# Altium footprint library PCB_Altium_Library_Manuel.PcbLib: 63 footprints (part 3 of 4)
Each footprint in its own frame and in the unit in brackets; x right, y up, seen from the top. Pads: shape width x height; smd on the part's side, far side on the other; paste and mask are expansions set on the pad; w line width, h text height; cw(c..) or ccw(c..) is an arc to the next point about the centre after c.
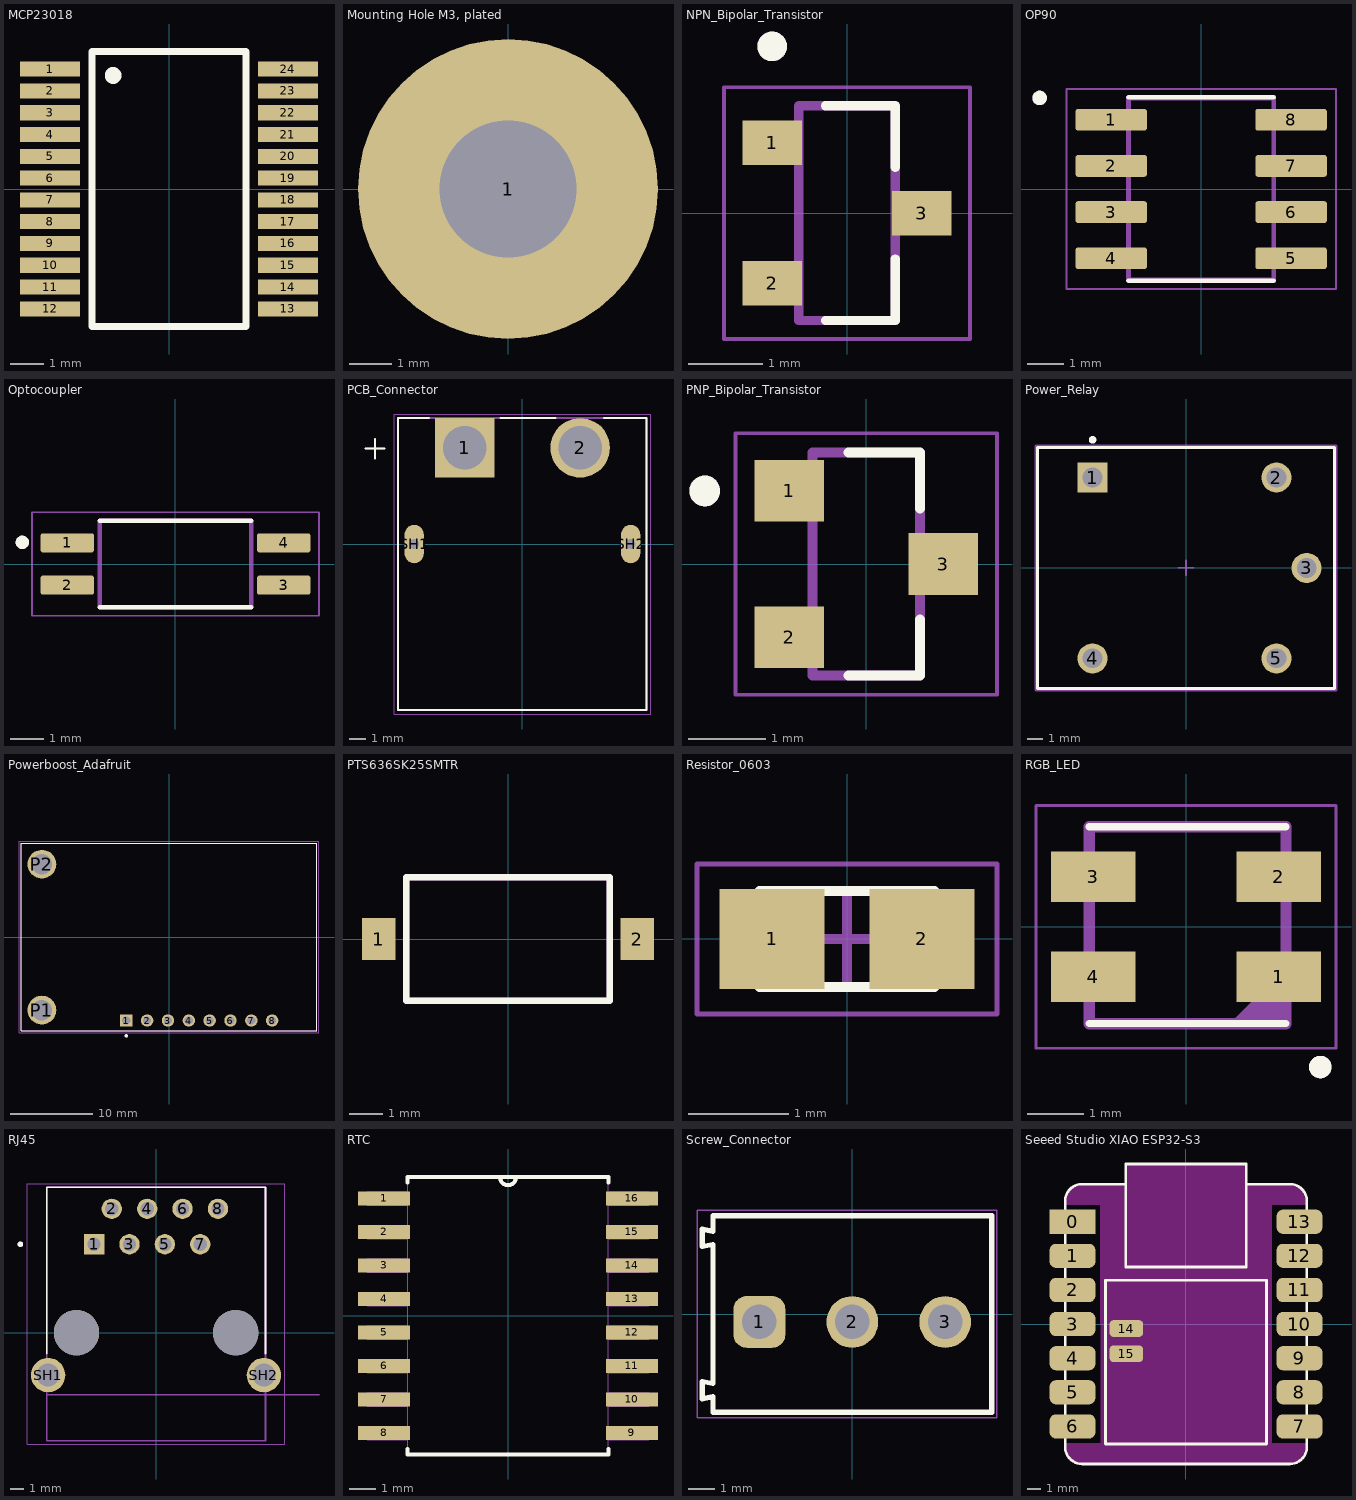
[diagram p2: the footprints below, top view; thin cyan lines are the x and y axes]

## MCP23018 [mm] "16-bit I/O Expander I2C,  SSOP-24"
pads (24):
  rect 1.8x0.45 smd: 1(-3.55,3.575) 2(-3.55,2.925) 3(-3.55,2.275) 4(-3.55,1.625) 5(-3.55,0.975) 6(-3.55,0.325) 7(-3.55,-0.325) 8(-3.55,-0.975) 9(-3.55,-1.625) 10(-3.55,-2.275) 11(-3.55,-2.925) 12(-3.55,-3.575) 13(3.55,-3.575) 14(3.55,-2.925) 15(3.55,-2.275) 16(3.55,-1.625) 17(3.55,-0.975) 18(3.55,-0.325) 19(3.55,0.325) 20(3.55,0.975) 21(3.55,1.625) 22(3.55,2.275) 23(3.55,2.925) 24(3.55,3.575)
Top Overlay:
  circle w0.3: c-1.666,3.387 r0.1
  lines w0.2: -2.3,-4.1 -2.3,4.1 2.3,4.1 2.3,-4.1 -2.3,-4.1
3D body "MCP23018-E_SS.stp": height 2, standoff 0, extent -3.9,-4.1 3.9,4.1

## Mounting Hole M3, plated [mm] "Mounting Hole for M3 Screw, plated to connect signal"
pads (1):
  round 7 / inner round 5 / far side round 7 hole 3.2: 1(0,0)
Top Overlay:
  circle w0.2: c0,0 r2.9
3D body: height 0, standoff 0, extent -2.254,1.203 -1.258,2.201

## NPN_Bipolar_Transistor [mm] "SS8050 SOT - 23."
pads (3):
  rect 0.8x0.6 smd: 1(-1.01,0.95) 2(-1.01,-0.95) 3(1.01,0)
Top Overlay:
  circle w0.2: c-1.01,2.25 r0.1
  lines w0.127: -0.29,-1.45 0.65,-1.45 0.65,-0.62 ; -0.29,1.45 0.65,1.45 0.65,0.62
Mechanical 13:
  circle w0.2: c-1.01,2.25 r0.1
  lines w0.127: -0.65,-1.45 -0.65,1.45 0.65,1.45 0.65,-1.45 -0.65,-1.45
Mechanical 15:
  lines w0.05: -1.66,-1.7 1.66,-1.7 1.66,1.7 -1.66,1.7 -1.66,-1.7
3D body "SS8050-G--3DModel-STEP-1.STEP": height 1.14, standoff 0, extent -1.2,-1.448 1.2,1.448

## OP90 [mm] "Operation amplifier OP90 SMD"
pads (8):
  rrect25% 1.97x0.6 smd: 1(-2.475,1.905) 2(-2.475,0.635) 3(-2.475,-0.635) 4(-2.475,-1.905) 5(2.475,-1.905) 6(2.475,-0.635) 7(2.475,0.635) 8(2.475,1.905)
Top Overlay:
  circle w0.2: c-4.445,2.505 r0.1
  lines w0.127: -2,-2.525 2,-2.525 ; -2,2.525 2,2.525
Mechanical 13:
  circle w0.2: c-4.445,2.505 r0.1
  lines w0.127: -2,-2.5 -2,2.5 2,2.5 2,-2.5 -2,-2.5
Mechanical 15:
  lines w0.05: -3.71,-2.75 -3.71,2.75 3.71,2.75 3.71,-2.75 -3.71,-2.75
3D body "step_temp.STEP": height 1.75, standoff 0, extent -3,-2.45 3,2.45

## Optocoupler [mm] "TLP291(GB-TP,SE), Optoisolator Transistor Output 3750Vrms 1 Channel 4-SO."
pads (4):
  rrect25% 1.61x0.57 smd: 1(-3.25,0.635) 2(-3.25,-0.635) 3(3.25,-0.635) 4(3.25,0.635)
Top Overlay:
  circle w0.2: c-4.6,0.65 r0.1
  lines w0.127: -2.275,-1.3 2.275,-1.3 ; -2.275,1.3 2.275,1.3
Mechanical 13:
  circle w0.2: c-4.6,0.65 r0.1
  lines w0.127: -2.275,-1.3 -2.275,1.3 2.275,1.3 2.275,-1.3 -2.275,-1.3
Mechanical 15:
  lines w0.05: -4.31,-1.55 -4.31,1.55 4.31,1.55 4.31,-1.55 -4.31,-1.55
3D body "step_temp.STEP": height 2.3, standoff 0, extent -3.5,-1.3 3.5,1.3

## PCB_Connector [mm] "XT60PW-M, Socket, DC supply, male, PIN: 2."
height 8.4
pads (4):
  rect 3.716x3.716 / inner round 3.716 / far side rect 3.716x3.716 hole 2.7 mask+0.102: 1(-3.6,6)
  round 3.716 hole 2.7 mask+0.102: 2(3.6,6)
  oval 1.2x2.4 hole 0.6 square mask+0.102: SH1(-6.75,0) SH2(6.75,0)
Top Overlay:
  lines w0.127: -9.8,5.95 -8.6,5.95 ; -9.2,5.35 -9.2,6.55 ; -5.828,7.85 -7.75,7.85 -7.75,-10.35 7.75,-10.35 7.75,7.85 5.078,7.85 ; -1.372,7.85 2.072,7.85
Mechanical 13:
  lines w0.127: -9.8,5.95 -8.6,5.95 ; -9.2,5.35 -9.2,6.55 ; -7.75,-10.35 -7.75,7.85 7.75,7.85 7.75,-10.35 -7.75,-10.35
Mechanical 15:
  lines w0.05: -8,-10.6 -8,8.11 8,8.11 8,-10.6 -8,-10.6
3D body "step_temp.STEP": height 8.4, standoff -2.55, extent -7.75,-10.35 7.75,7.85

## PNP_Bipolar_Transistor [mm] "S8550, Bipolar (BJT) Transistor PNP 25 V 500 mA 150MHz 300 mW Surface Mount SOT-23."
pads (3):
  rect 0.9x0.8 smd: 1(-1,0.95) 2(-1,-0.95) 3(1,0)
Top Overlay:
  circle w0.2: c-2.1,0.95 r0.1
  lines w0.127: -0.23,-1.45 0.7,-1.45 0.7,-0.72 ; -0.23,1.45 0.7,1.45 0.7,0.72
Mechanical 13:
  circle w0.2: c-2.1,0.95 r0.1
  lines w0.127: -0.7,-1.45 0.7,-1.45 0.7,1.45 -0.7,1.45 -0.7,-1.45
Mechanical 15:
  lines w0.05: -1.7,-1.7 1.7,-1.7 1.7,1.7 -1.7,1.7 -1.7,-1.7
3D body "step_temp.STEP": height 1.4, standoff 0, extent -1.262,-1.45 1.262,1.45

## Power_Relay [mm] "ORWH-SH-105D1F,000, RELAY GEN PURPOSE SPDT 10A 5V."
pads (5):
  rect 2x2 hole 1.3 paste-2539.97 mask+0: 1(-6.2,6)
  round 2 hole 1.3 paste-2539.97 mask+0: 2(6,6) 3(8,0) 4(-6.2,-6) 5(6,-6)
Top Overlay:
  circle w0.25: c-6.2,8.5 r0.125
  lines w0.2: -9.85,-8 -9.85,8 9.85,8 9.85,-8 -9.85,-8
Top 3D Body:
  lines w0.2: -9.85,-8 -9.85,8 9.85,8 9.85,-8 -9.85,-8
Board:
  lines w0.2: -9.95,-8.1 -9.95,8.1 9.95,8.1 9.95,-8.1 -9.95,-8.1
Top Assembly:
  lines w0.2: -9.95,-8.1 -9.95,8.1 9.95,8.1 9.95,-8.1 -9.95,-8.1
  text ".Designator" at 0,0.188 h1
Top Component Center:
  lines w0.1: -0.5,0 0.5,0 ; 0,-0.5 0,0.5
3D body "Relay_TE_1-1721150-0_eec.STEP": height 0.25, standoff 0, extent -9.95,-8.1 9.95,8.1

## Powerboost_Adafruit [mm] "PowerBoost 1000 Charger - Rechargeable 5V Lipo USB Boost @ 1A - 1000C"
pads (10):
  rect 1.508x1.508 / inner round 1.508 / far side rect 1.508x1.508 hole 1: 1(-5.207,-10.16)
  round 1.508 hole 1: 2(-2.667,-10.16) 3(-0.127,-10.16) 4(2.413,-10.16) 5(4.953,-10.16) 6(7.493,-10.16) 7(10.033,-10.16) 8(12.573,-10.16)
  round 3.516 hole 2.5: P1(-15.494,-8.89) P2(-15.494,8.89)
Top Overlay:
  circle w0.2: c-5.207,-12.03 r0.1
  lines w0.127: -18.034,-11.43 18.034,-11.43 18.034,11.43 -18.034,11.43 -18.034,-11.43
Mechanical 13:
  circle w0.2: c-5.207,-12.03 r0.1
  lines w0.127: -18.034,-11.43 -18.034,11.43 18.034,11.43 18.034,-11.43 -18.034,-11.43
Mechanical 15:
  lines w0.05: -18.284,-11.68 -18.284,11.68 18.284,11.68 18.284,-11.68 -18.284,-11.68
3D body "step_temp.STEP": height 7.18, standoff 0.01, extent -18.666,-11.43 18.034,11.43

## PTS636SK25SMTR [mm]
pads (2):
  rect 1x1.25 smd: 1(-3.875,0) 2(3.875,0)
Top Overlay:
  lines w0.2: -3.05,-1.85 3.05,-1.85 3.05,1.85 -3.05,1.85 -3.05,-1.85
Mechanical 13:
  lines w0.2: -3.05,-1.85 3.05,-1.85 3.05,1.85 -3.05,1.85 -3.05,-1.85
3D body "PTS636SK25SMTR_LFS.stp": height 2.5, standoff -0.05, extent -4,-1.85 4,1.85

## Resistor_0603 [mm]
pads (2):
  rect 1.05x1 smd: 1(-0.75,0) 2(0.75,0)
Top Overlay:
  lines w0.1: -0.875,-0.48 0.875,-0.48 0.875,0.48 -0.875,0.48 -0.875,-0.48
Mechanical 15:
  lines w0.05: -1.5,-0.75 1.5,-0.75 1.5,0.75 -1.5,0.75 -1.5,-0.75
  lines w0.1: -0.48,0 0.48,0 ; 0,-0.48 0,0.48
3D body "Res_Yageo_AC0603FR-07180RL_eec.STEP": height 0.55, standoff 0, extent -0.8,-0.4 0.8,0.4

## RGB_LED [mm] "S35353RGBSK6812MINID001"
pads (4):
  rect 1.5x0.9 smd: 1(1.651,-0.889) 2(1.651,0.889) 3(-1.651,0.889) 4(-1.651,-0.889)
Top Overlay:
  circle w0.2: c2.388,-2.494 r0.1
  lines w0.127: -1.722,-1.722 1.778,-1.722 ; -1.722,1.778 1.778,1.778
Mechanical 13:
  circle w0.2: c2.388,-2.494 r0.1
  region: 1.778,-1.722 0.778,-1.722 1.778,-0.722
  lines w0.2: -1.722,-1.722 1.778,-1.722 1.778,1.778 -1.722,1.778 -1.722,-1.722
Mechanical 15:
  lines w0.05: -2.667,-2.159 -2.667,2.159 2.667,2.159 2.667,-2.159 -2.667,-2.159
3D body "SK68XXMINI-HS--3DModel-STEP-269445.STEP": height 1.96, standoff 0.01, extent -1.85,-1.75 1.85,1.75

## RJ45 [mm] "RJE091884511C, Jack Modular Connector 8p8c (RJ45, Ethernet) 90Â° Angle (Right) Shielded Cat3."
height 13.2
pads (12):
  rect 1.458x1.458 / inner round 1.458 / far side rect 1.458x1.458 hole 0.95: 1(-4.445,6.35)
  round 1.458 hole 0.95: 2(-3.175,8.89) 3(-1.905,6.35) 4(-0.635,8.89) 5(0.635,6.35) 6(1.905,8.89) 7(3.175,6.35) 8(4.445,8.89)
  round 2.475 hole 1.65: SH1(-7.75,-3.05) SH2(7.75,-3.05)
  round 3.25 hole 3.25 unplated: ""(-5.715,0) ""(5.715,0)
Top Overlay:
  circle w0.2: c-9.737,6.35 r0.1
  lines w0.127: -7.85,-1.492 -7.85,10.44 7.85,10.44 7.85,-1.492
Mechanical 13:
  circle w0.2: c-9.737,6.35 r0.1
  lines w0.127: 11.7,-4.46 -7.85,-4.46 ; -7.85,-4.46 -7.85,10.44 7.85,10.44 7.85,-7.76 -7.85,-7.76 -7.85,-4.46
  text "PCB Edge" at 9.498,-4.091 h0.81
Mechanical 15:
  lines w0.05: -9.237,-8.01 9.237,-8.01 9.237,10.69 -9.237,10.69 -9.237,-8.01
3D body "step_temp.STEP": height 13, standoff -3.7, extent -7.88,-7.74 7.88,10.46

## RTC [mil] "DS3231S#, SOIC127P1032X265-16N, Real Time Clock (RTC) IC Clock/Calendar - IÂ²C, 2-Wire Serial 16-SOIC (0.295, 7.50mm Width)."
pads (16):
  rect 78x21 smd: 1(-185,175) 2(-185,125) 3(-185,75) 4(-185,25) 5(-185,-25) 6(-185,-75) 7(-185,-125) 8(-185,-175) 9(185,-175) 10(185,-125) 11(185,-75) 12(185,-25) 13(185,25) 14(185,75) 15(185,125) 16(185,175)
Top Overlay:
  lines w6: -150,-199 -150,-207 150,-207 150,-199 ; -150,199 -150,207 -12,207 ; 150,199 150,207 12,207 ; -12,207 ccw(c0,207) 12,207 ; -12,207 12,207
Mechanical 13:
  lines w0: -12,207 ccw(c0,207) 12,207 ; -12,207 -150,207 -150,-207 150,-207 150,207 12,207 ; -12,207 12,207 ; -210,-185 -150,-185 -150,-165 -210,-165 -210,-185 ; -210,-135 -150,-135 -150,-115 -210,-115 -210,-135 ; -210,-85 -150,-85 -150,-65 -210,-65 -210,-85 ; -210,-35 -150,-35 -150,-15 -210,-15 -210,-35 ; -210,15 -150,15 -150,35 -210,35 -210,15 ; -210,65 -150,65 -150,85 -210,85 -210,65 ; -210,115 -150,115 -150,135 -210,135 -210,115 ; -210,165 -150,165 -150,185 -210,185 -210,165 ; 150,-185 210,-185 210,-165 150,-165 150,-185 ; 150,-135 210,-135 210,-115 150,-115 150,-135 ; 150,-85 210,-85 210,-65 150,-65 150,-85 ; 150,-35 210,-35 210,-15 150,-15 150,-35 ; 150,15 210,15 210,35 150,35 150,15 ; 150,65 210,65 210,85 150,85 150,65 ; 150,115 210,115 210,135 150,135 150,115 ; 150,165 210,165 210,185 150,185 150,165
3D body "step_temp.STEP": height 104.33, standoff 0, extent -203.25,-202.76 203.25,202.76

## Screw_Connector [mm] "691214110003 Wurth Elektronik, 3.50 mm Horizontal Entry Modular, 3p"
pads (3):
  rrect50% 1.95x1.95 hole 1.3: 1(-3.5,-0.3)
  round 1.95 hole 1.3: 2(0,-0.3) 3(3.5,-0.3)
Top Overlay:
  lines w0.2: -5.65,-3.195 -5.65,-2.545 -5.25,-2.62 -5.25,2.62 -5.65,2.545 -5.65,3.195 -5.25,3.12 -5.25,3.7 5.25,3.7 5.25,-3.7 -5.25,-3.7 -5.25,-3.12 -5.65,-3.195
Top 3D Body:
  lines w0.1: -5.65,-3.195 -5.65,-2.545 -5.25,-2.62 -5.25,2.62 -5.65,2.545 -5.65,3.195 -5.25,3.12 -5.25,3.7 5.25,3.7 5.25,-3.7 -5.25,-3.7 -5.25,-3.12 -5.65,-3.195
Top Courtyard:
  lines w0.05: -5.85,-3.9 -5.85,3.9 5.45,3.9 5.45,-3.9 -5.85,-3.9
Top Assembly:
  lines w0.1: -5.65,-3.195 -5.25,-3.12 -5.25,-3.7 5.25,-3.7 5.25,3.7 -5.25,3.7 -5.25,3.12 -5.65,3.195 -5.65,2.545 -5.25,2.62 -5.25,-2.62 -5.65,-2.545 -5.65,-3.195
Top Designator:
  text ".Designator" at -3.647,-0.357 h1
Bottom Courtyard:
  lines w0.1: -0.5,0 0.5,0 ; 0,-0.5 0,0.5
3D body "691214110003.stp": height 8.55, standoff -3.65, extent -5.7,-3.7 5.25,3.7

## Seeed Studio XIAO ESP32-S3 [mm]
pads (17):
  rect 3.4x1.8 smd: 0(-8.45,7.62)
  rrect50% 3.4x1.8 smd: 1(-8.45,5.08) 2(-8.45,2.54) 3(-8.45,0) 4(-8.45,-2.54) 5(-8.45,-5.08) 6(-8.45,-7.62) 7(8.45,-7.62) 8(8.45,-5.08) 9(8.45,-2.54) 10(8.45,0) 11(8.45,2.54) 12(8.45,5.08) 13(8.45,7.62)
  rrect50% 2.5x1.25 smd: 14(-4.445,-0.33) 15(-4.445,-2.21)
  rrect50% 0.05x0.05 on Mech13: 36(0,0.005)
Top Overlay:
  lines w0.2: -4.475,10.42 -4.475,11.92 4.475,11.92 4.475,10.42 ; -4.475,10.42 -7.75,10.42 ccw(c-7.75,9.17) -9,9.17 -9,-9.155 ccw(c-7.735,-9.155) -7.735,-10.42 7.735,-10.42 ccw(c7.735,-9.155) 9,-9.155 9,9.17 ccw(c7.75,9.17) 7.75,10.42 4.475,10.42 ; -4.475,10.42 -4.475,4.245 4.475,4.245 4.475,10.42 ; -6,-8.93 6,-8.93 6,3.27 -6,3.27 -6,-8.93
Keep-Out Layer:
  region: -4.475,11.92 4.475,11.92 4.475,10.42 8.247,10.42 9,9.667 9,8.9 6.384,8.9 6.384,-8.884 9,-8.884 9,-9.641 8.314,-10.328 7.827,-10.328 7.735,-10.42 -8.163,-10.42 -8.779,-9.803 -8.821,-9.803 -9,-9.625 -9,-8.884 -6.347,-8.884 -6.4,8.9 -9,8.9 -9,9.587 -8.555,10.032 -8.555,10.126 -8.261,10.42 -4.475,10.42
3D body: height 1.2, standoff 0, extent 6.8,-8.57 9.025,-6.67
3D body: height 1.2, standoff 0, extent -9.025,-8.57 -6.8,-6.67
3D body: height 1.2, standoff 0, extent 6.8,-6.03 9.025,-4.13
3D body: height 1.2, standoff 0, extent -9.025,-6.03 -6.8,-4.13
3D body: height 1.2, standoff 0, extent 6.8,-3.49 9.025,-1.59
3D body: height 1.2, standoff 0, extent -9.025,-3.49 -6.8,-1.59
3D body: height 1.2, standoff 0, extent 6.8,-0.95 9.025,0.95
3D body: height 1.2, standoff 0, extent -9.025,-0.95 -6.8,0.95
3D body: height 1.2, standoff 0, extent 6.8,1.59 9.025,3.49
3D body: height 1.2, standoff 0, extent -9.025,1.59 -6.8,3.49
3D body: height 1.2, standoff 0, extent 6.8,4.13 9.025,6.03
3D body: height 1.2, standoff 0, extent -9.025,4.13 -6.8,6.03
3D body: height 1.2, standoff 0, extent 6.8,6.67 9.025,8.57
3D body: height 1.2, standoff 0, extent -9.025,6.67 -6.8,8.57
3D body "XIAO ESP32C3--3DModel-STEP-269445.STEP": height 4.21, standoff 0, extent -8.89,-10.477 8.89,11.986